# Altium schematic symbol library Horda ASG.Schlib: 1 symbol
Pins are listed as number, name and electrical type; pins without a type are passive.

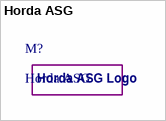
[diagram p0: symbol Horda ASG]

## Horda ASG
designator M?  (no BOM)
Horda ASG Logo